# EAGLE library part PCM2707 (library ICs)
16bit 48kHz USB Audio Transceiver.
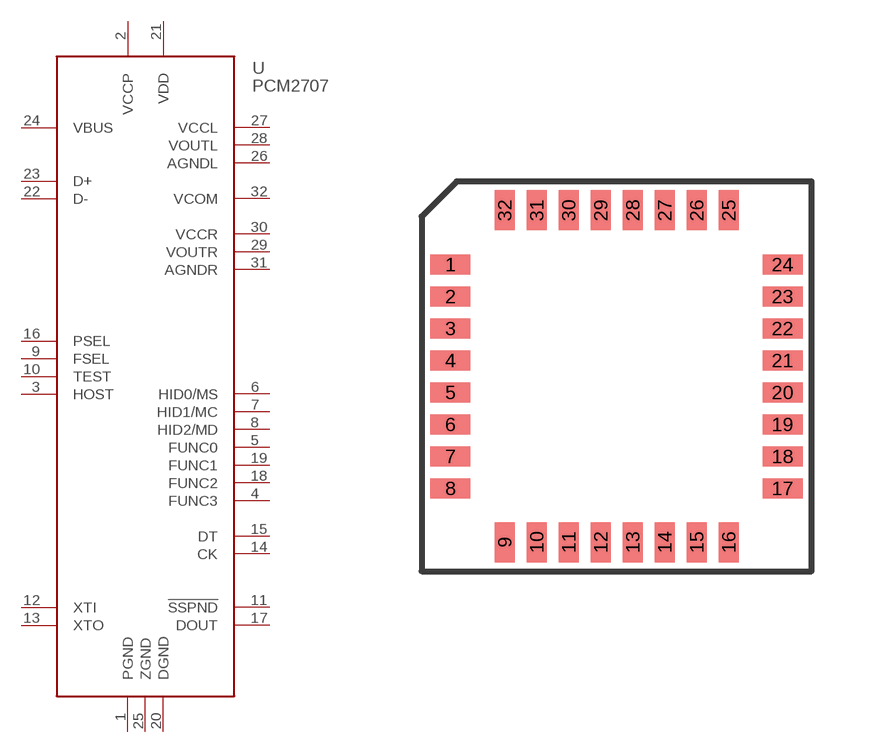
[diagram p5: symbol with the pads of QFP32_0.8MM; footprint QFP32_0.8MM]

Designator prefix U

## PCM2707PJT (DIGIKEY: 296-31709-1-ND; HEIGHT: 1; PRICE_PER: 9.14; VALUE: PCM2707)  [QFP32_0.8MM]
1  PGND
2  VCCP
3  HOST
4  FUNC3
5  FUNC0
6  HID0/MS
7  HID1/MC
8  HID2/MD
9  FSEL
10  TEST
11  !SSPND
12  XTI
13  XTO
14  CK
15  DT
16  PSEL
17  DOUT
18  FUNC2
19  FUNC1
20  DGND
21  VDD
22  D-
23  D+
24  VBUS
25  ZGND
26  AGNDL
27  VCCL
28  VOUTL
29  VOUTR
30  VCCR
31  AGNDR
32  VCOM

## Footprint QFP32_0.8MM (pad centres in mm)
smd 1 x 0.5: 1 -4.15,2.8; 2 -4.15,2; 3 -4.15,1.2; 4 -4.15,0.4; 5 -4.15,-0.4; 6 -4.15,-1.2; 7 -4.15,-2; 8 -4.15,-2.8; 17 4.15,-2.8; 18 4.15,-2; 19 4.15,-1.2; 20 4.15,-0.4; 21 4.15,0.4; 22 4.15,1.2; 23 4.15,2; 24 4.15,2.8
smd 0.5 x 1: 9 -2.8,-4.15; 10 -2,-4.15; 11 -1.2,-4.15; 12 -0.4,-4.15; 13 0.4,-4.15; 14 1.2,-4.15; 15 2,-4.15; 16 2.8,-4.15; 25 2.8,4.15; 26 2,4.15; 27 1.2,4.15; 28 0.4,4.15; 29 -0.4,4.15; 30 -1.2,4.15; 31 -2,4.15; 32 -2.8,4.15